# Altium footprint library DM-03S-25C-A-Z.PcbLib: 1 footprints
Each footprint in its own frame and in the unit in brackets; x right, y up, seen from the top. Pads: shape width x height; smd on the part's side, far side on the other; paste and mask are expansions set on the pad; w line width, h text height; cw(c..) or ccw(c..) is an arc to the next point about the centre after c.
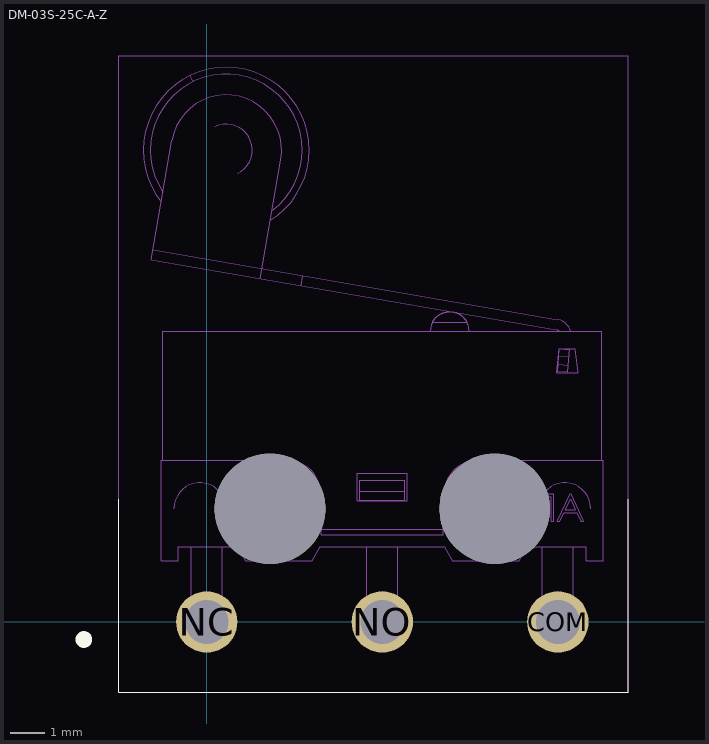
[diagram p0: the footprint, top view; thin cyan lines are the x and y axes]

## DM-03S-25C-A-Z [mm] "left roller switch"
pads (5):
  round 1.778 hole 1.27 paste+0: COM(10.16,0) NC(0,0) NO(5.08,0)
  round 3.2 hole 3.2 unplated paste+0: ""(1.83,3.278) ""(8.33,3.278)
Top Overlay:
  circle w0.254: c-3.556,-0.508 r0.114
  lines w0.025: -2.54,3.556 -2.54,-2.032 12.192,-2.032 12.192,3.556
Mechanical 1:
  drawing of 746 lines, arcs and shapes, not listed
  text ".Designator" at 3.632,3.309 h1.52
Comp_Outline:
  lines w0.025: -2.54,-2.032 -2.54,16.383 12.192,16.383 12.192,-2.032 -2.54,-2.032
3D body "DF-145C0.STEP": height 5.76, standoff -3.13, extent -1.883,-0.317 11.429,16.051